# Altium schematic symbol library pale_sieve.SchLib: 30 symbols
Pins are listed as number, name and electrical type; pins without a type are passive.

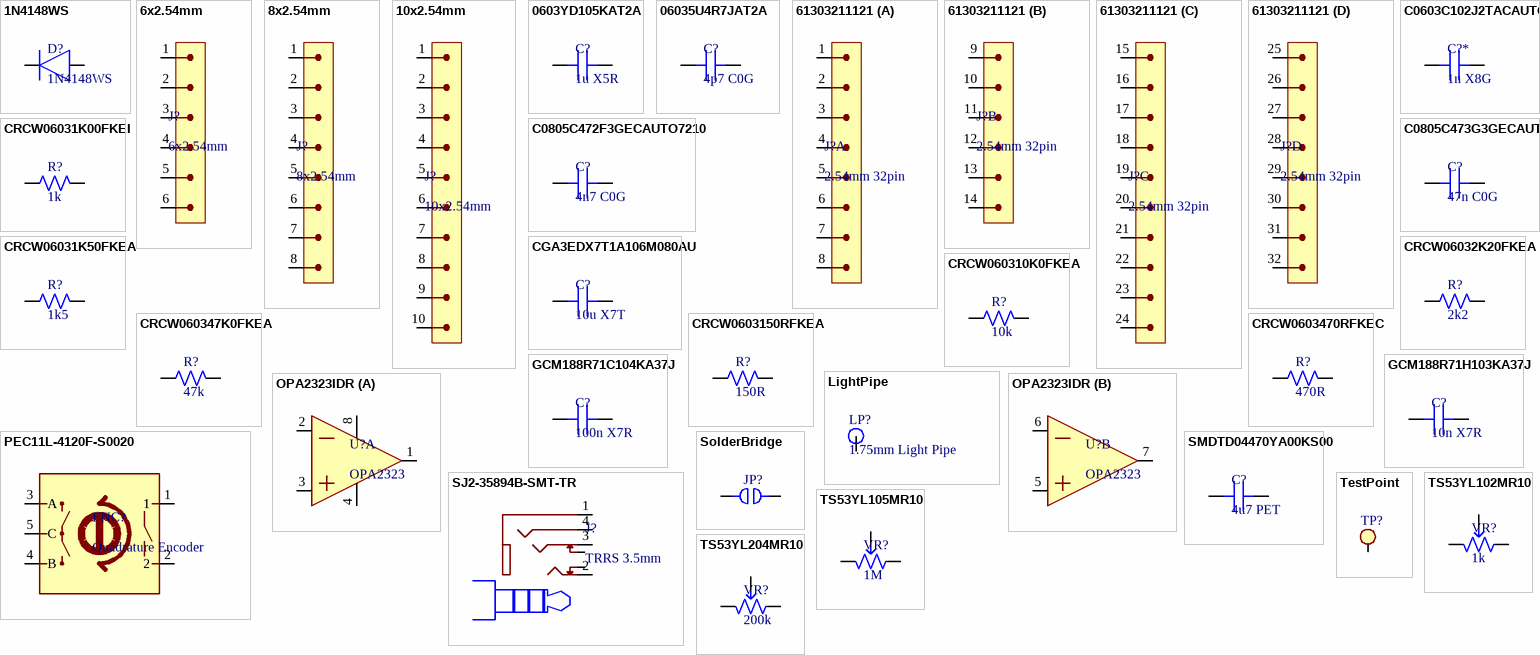
[diagram p0: symbols 1N4148WS to TS53YL204MR10]

## 1N4148WS
designator D?
Rectifier Diode, 1 Phase, 1 Element, 0.15A, 100V V(RRM), Silicon; Manufacturer: ON Semiconductor / Fairchild; Package Body Material: Plastic; Number of Elements: 1; Max Output current: 150mA; Reverse Recovery Time-Max: 0.004us; Forward Voltage: 1V; Qualification Status: Not Qualified; Supplier: Mouser; Supplier Part Number: 512-1N4148WS; Manufacturer Part Number: 1N4148WS; RoHS: Yes; Category: Rectifier Diodes; Stock: 1099354; Pricing: 1=0.11, 10=0.066, 50=0.066, 100=0.062, 1000=0.04, 10000=0.019 (USD); Pins: 2; Diode Element Material: SILICON; Package Shape: Rectangular; Max Operating Temperature: 150°C; Diode Type: RECTIFIER; JESD-30 Code: R-PDSO-F2; Package Style: SMALL OUTLINEMeter; Rep Pk Reverse Voltage-Max: 100V; Surface Mount: Yes; Terminal Form: Flat; Terminal Position: DUAL; Moisture Sensitivity Level: 1; Reach SVHC Compliant: Yes; RoHS Compliant: Yes; ComponentLink1URL: https://datasheet.ciiva.com:443/pdfs/VipMasterIC/IC/ONSM/ONSM-S-A0003392874/ONSM-S-A0003585195-1.pdf?src-supplier=IHS+Markit; ComponentLink1Description: https://datasheet.ciiva.com:443/pdfs/VipMasterIC/IC/ONSM/ONSM-S-A0003392874/ONSM-S-A0003585195-1.pdf?src-supplier=IHS+Markit
footprint SOD-323
pins: 1, 2

## 6x2.54mm
designator J?
footprint 1X6 2.54MM
pins: 1, 2, 3, 4, 5, 6

## 8x2.54mm
designator J?
footprint 1x8 2.54MM
pins: 1, 2, 3, 4, 5, 6, 7, 8

## 10x2.54mm
designator J?
footprint 1X10 2.54MM
pins: 1, 2, 3, 4, 5, 6, 7, 8, 9, 10

## 0603YD105KAT2A
designator C?, comment 1u X5R
Ceramic Capacitor, Multilayer, Ceramic, 16V, 10% +Tol, 10% -Tol, X5R, 15% TC, 1uF, Surface Mount, 0603; Manufacturer: Kyocera AVX; Manufacturer Part Number: 0603YD105KAT2A; Multilayer: Yes; Supplier: Mouser; Supplier Part Number: 581-0603YD105K; RoHS: Yes; Category: Ceramic Capacitors; Stock: 78861; Pricing: 1=0.1, 10=0.054, 50=0.054, 100=0.039, 1000=0.028, 10000=0.014 (USD); Mounting Technology: Surface Mount; Pins: 2; Dielectric Material: Ceramic; Package Shape: Rectangular; Case/Package: 0603; Terminal Finish: Nickel; Min Operating Temperature: -55°C; Max Operating Temperature: 85°C; JESD-609 Code: e3; Value: 1uF; Capacitor Type: Ceramic; Tolerance  (fill in as +-): 10%; Package Style: SMTMeter; Packaging: Tape and Reel; Tolerance (fill in as +-): 10%; Rated DC Voltage (URdc): 16V; Temperature Characteristics Code: X5R; Termination: Wraparound; Length: 1.6mm; Width: 0.81mm; Height: 0.9mm; Reach SVHC Compliant: Yes; RoHS Compliant: Yes; ComponentLink1URL: https://datasheet.ciiva.com:443/pdfs/VipMasterIC/IC/AVXC/AVXC-S-A0009640604/AVXC-S-A0009640604-1.pdf?src-supplier=IHS+Markit; ComponentLink1Description: https://datasheet.ciiva.com:443/pdfs/VipMasterIC/IC/AVXC/AVXC-S-A0009640604/AVXC-S-A0009640604-1.pdf?src-supplier=IHS+Markit; ComponentLink2URL: https://datasheet.ciiva.com/34303/2012654-34303835.pdf?src-supplier=Jameco; ComponentLink2Description: https://datasheet.ciiva.com/34303/2012654-34303835.pdf?src-supplier=Jameco; ComponentLink3URL: https://datasheet.ciiva.com/11788/0900766b80def1a5-11788563.pdf?src-supplier=Rs; ComponentLink3Description: https://datasheet.ciiva.com/11788/0900766b80def1a5-11788563.pdf?src-supplier=Rs; ComponentLink4URL: https://datasheet.ciiva.com/150/cx5r-150393.pdf?src-supplier=Digikey; ComponentLink4Description: https://datasheet.ciiva.com/150/cx5r-150393.pdf?src-supplier=Digikey; ComponentLink5URL: https://datasheet.ciiva.com/5412/cx5r-5412550.pdf?src-supplier=Mouser; ComponentLink5Description: https://datasheet.ciiva.com/5412/cx5r-5412550.pdf?src-supplier=Mouser; ComponentLink6URL: https://datasheet.ciiva.com/14586/70001028-14586715.pdf?src-supplier=Allied+Electronics; ComponentLink6Description: https://datasheet.ciiva.com/14586/70001028-14586715.pdf?src-supplier=Allied+Electronics; ComponentLink7URL: https://datasheet.ciiva.com/14590/70001028-14590632.pdf?src-supplier=Allied+Electronics; ComponentLink7Description: https://datasheet.ciiva.com/14590/70001028-14590632.pdf?src-supplier=Allied+Electronics; ComponentLink8URL: https://datasheet.ciiva.com/2987/cx5r-2987890.pdf?src-supplier=Avnet; ComponentLink8Description: https://datasheet.ciiva.com/2987/cx5r-2987890.pdf?src-supplier=Avnet; ComponentLink9URL: https://datasheet.ciiva.com/1458/84508-1458137.pdf?src-supplier=Element14; ComponentLink9Description: https://datasheet.ciiva.com/1458/84508-1458137.pdf?src-supplier=Element14; ComponentLink10URL: https://datasheet.ciiva.com/1458/84508-1458138.pdf?src-supplier=Element14; ComponentLink10Description: https://datasheet.ciiva.com/1458/84508-1458138.pdf?src-supplier=Element14; ComponentLink11URL: https://datasheet.ciiva.com/150/cx5r-150392.pdf?src-supplier=Digikey; ComponentLink11Description: https://datasheet.ciiva.com/150/cx5r-150392.pdf?src-supplier=Digikey; ComponentLink12URL: https://datasheet.ciiva.com/150/cx5r-150394.pdf?src-supplier=Digikey; ComponentLink12Description: https://datasheet.ciiva.com/150/cx5r-150394.pdf?src-supplier=Digikey
footprint C0603
pins: 1, 2

## 06035U4R7JAT2A
designator C?, comment 4p7 C0G
Multilayer Ceramic Capacitors MLCC - SMD/SMT 50V 4.7pF C0G 0603 5% Tol Ultra Low ESR; Manufacturer: Kyocera AVX; Manufacturer Part Number: 06035U4R7JAT2A; Supplier: Mouser; Supplier Part Number: 581-06035U4R7JAT2A; RoHS: Yes; Category: Ceramic Capacitors; Stock: 33815; Pricing: 1=0.39, 10=0.256, 50=0.256, 100=0.16, 1000=0.121, 10000=0.092 (USD); ComponentLink1URL: https://datasheet.ciiva.com/11551/useries-11551734.pdf?src-supplier=Avnet; ComponentLink1Description: https://datasheet.ciiva.com/11551/useries-11551734.pdf?src-supplier=Avnet; ComponentLink2URL: https://datasheet.ciiva.com/6265/useries-6265127.pdf?src-supplier=Digikey; ComponentLink2Description: https://datasheet.ciiva.com/6265/useries-6265127.pdf?src-supplier=Digikey
footprint C0603
pins: 1, 2

## 61303211121
designator J?, comment 2.54mm 32pin
Board Connector, 32 Contact(s), 1 Row(s), Male, Straight, 0.1 inch Pitch, Solder Terminal, Locking, Black Insulator, Plug; Manufacturer: Wurth Electronics; Manufacturer Part Number: 61303211121; Manufacturer Series: 613; Contact Pattern: RECTANGULAR; Contact Resistance: 20mR; Contact Style: SQ PIN-SKT; Dielectric Withstanding Voltage (AC): 500V; Insulation Resistance: 1GR; Number Of Connectors: 1; Rated Current (Signal): 3A; Number of Contacts: 32; Body Length: 3.2inch; Reference Standard: UL; Reliability: COMMERCIAL; Supplier: Mouser; Supplier Part Number: 710-61303211121; RoHS: Yes; Category: Headers and Wire Housings; Stock: 304; Pricing: 1=2.22, 10=2.17, 50=2.01, 100=1.84, 1000=1.67, 10000=1.67 (USD); Mounting Technology: Board; Contact Material: Copper Alloy; Contact Finish - Mating: GOLD; Contact Finish - Termination: Gold (Au) - with Nickel (Ni) barrier; Insulation Color: Black; Insulation Material: Polybutylene; Min Operating Temperature: -40°C; Max Operating Temperature: 125°C; Connector Type: BOARD CONNECTOR; JESD-609 Code: e4; Body/Shell Style: PLUG; Contact Gender: Male; Mounting Style: STRAIGHT; Number of Rows Loaded: 1; PCB Contact Pattern: RECTANGULAR; Termination: Solder; Body Breadth: 0.1inch; Body Depth: 0.1inch; Mating Contact Pitch: 0.1inch; Mounting Option 1: LOCKING; Terminal Length: 0.118inch; Terminal Pitch: 2.54mm; Reach SVHC Compliant: Yes; RoHS Compliant: Yes; ComponentLink1URL: https://datasheet.ciiva.com:443/pdfs/VipMasterIC/IC/MIDC/MIDCS07676/MIDCS07676-1.pdf?src-supplier=IHS+Markit; ComponentLink1Description: https://datasheet.ciiva.com:443/pdfs/VipMasterIC/IC/MIDC/MIDCS07676/MIDCS07676-1.pdf?src-supplier=IHS+Markit; ComponentLink2URL: https://datasheet.ciiva.com/25618/0900766b81113c2c-25618097.pdf?src-supplier=Rs; ComponentLink2Description: https://datasheet.ciiva.com/25618/0900766b81113c2c-25618097.pdf?src-supplier=Rs; ComponentLink3URL: https://datasheet.ciiva.com/7631/1442175-7631325.pdf?src-supplier=Element14; ComponentLink3Description: https://datasheet.ciiva.com/7631/1442175-7631325.pdf?src-supplier=Element14; ComponentLink4URL: https://datasheet.ciiva.com/738/6130xx11121-738551.pdf?src-supplier=Digikey; ComponentLink4Description: https://datasheet.ciiva.com/738/6130xx11121-738551.pdf?src-supplier=Digikey
part A pins: 1, 2, 3, 4, 5, 6, 7, 8
part B pins: 9, 10, 11, 12, 13, 14
part C pins: 15, 16, 17, 18, 19, 20, 21, 22, 23, 24
part D pins: 25, 26, 27, 28, 29, 30, 31, 32

## C0603C102J2TACAUTO
designator C?*, comment 1n X8G
Manufacturer: KEMET; Manufacturer Part Number: C0603C102J2TACAUTO; Supplier: Mouser; Supplier Part Number: 80-C0603C102J2TAUTO; RoHS: No; Stock: 6659; Pricing: 1=0.55, 10=0.357, 50=0.357, 100=0.252, 1000=0.197, 10000=0.149 (USD)
footprint C0603
pins: 1, 2

## C0805C472F3GECAUTO7210
designator C?, comment 4n7 C0G
Ceramic Capacitor, Multilayer, Ceramic, 25V, 1% +Tol, 1% -Tol, C0G, -/+30ppm/Cel TC, 0.0047uF, Surface Mount, 0805; Manufacturer: KEMET; Manufacturer Part Number: C0805C472F3GECAUTO7210; Supplier: Mouser; Supplier Part Number: 80-C0805C472F3GEAULR; RoHS: Yes; Category: Ceramic Capacitors; Stock: 12511; Pricing: 1=1.12, 10=0.725, 50=0.725, 100=0.52, 1000=0.414, 10000=0.322 (USD); Pins: 2; Dielectric Material: Ceramic; Capacitor Type: Ceramic; Reach SVHC Compliant: Yes; RoHS Compliant: Yes; ComponentLink1URL: https://datasheet.ciiva.com:443/pdfs/VipMasterIC/IC/KEME/KEME-S-A0008958440/KEME-S-A0008958440-1.pdf?src-supplier=IHS+Markit; ComponentLink1Description: https://datasheet.ciiva.com:443/pdfs/VipMasterIC/IC/KEME/KEME-S-A0008958440/KEME-S-A0008958440-1.pdf?src-supplier=IHS+Markit; ComponentLink2URL: https://api.kemet.com/component-edge/download/datasheet/C0805C472F3GECAUTO7210.pdf?src-supplier=Digikey; ComponentLink2Description: https://api.kemet.com/component-edge/download/datasheet/C0805C472F3GECAUTO7210.pdf?src-supplier=Digikey
footprint C0805
pins: 1, 2

## C0805C473G3GECAUTO
designator C?, comment 47n C0G
Ceramic Capacitor, Multilayer, Ceramic, 25V, 2% +Tol, 2% -Tol, C0G, -/+30ppm/Cel TC, 0.047uF, Surface Mount, 0805; Manufacturer: KEMET; Manufacturer Part Number: C0805C473G3GECAUTO; Supplier: Mouser; Supplier Part Number: 80-C0805C473G3GECAUT; RoHS: Yes; Category: Ceramic Capacitors; Stock: 3931; Pricing: 1=0.86, 10=0.61, 50=0.61, 100=0.482, 1000=0.399, 10000=0.329 (USD); Pins: 2; Dielectric Material: Ceramic; Capacitor Type: Ceramic; Reach SVHC Compliant: Yes; RoHS Compliant: Yes; ComponentLink1URL: https://datasheet.ciiva.com:443/pdfs/VipMasterIC/IC/KEME/KEME-S-A0008958440/KEME-S-A0008958440-1.pdf?src-supplier=IHS+Markit; ComponentLink1Description: https://datasheet.ciiva.com:443/pdfs/VipMasterIC/IC/KEME/KEME-S-A0008958440/KEME-S-A0008958440-1.pdf?src-supplier=IHS+Markit; ComponentLink2URL: https://api.kemet.com/component-edge/download/datasheet/C0805C473G3GECAUTO.pdf?src-supplier=Digikey; ComponentLink2Description: https://api.kemet.com/component-edge/download/datasheet/C0805C473G3GECAUTO.pdf?src-supplier=Digikey
footprint C0805
pins: 1, 2

## CGA3EDX7T1A106M080AU
designator C?, comment 10u X7T
Manufacturer: TDK; Manufacturer Part Number: CGA3EDX7T1A106M080AU; Supplier: Mouser; Supplier Part Number: 810-CGA3EDX7T1A106M0; RoHS: No; Category: Ceramic Capacitors; Stock: 910; Pricing: 1=0.49, 10=0.321, 50=0.321, 100=0.193, 1000=0.149, 10000=0.112 (USD)
footprint C0603
pins: 1, 2

## CRCW06031K00FKEI
designator R?, comment 1k
Fixed Resistor, Metal Glaze/thick Film, 0.1W, 1000ohm, 75V, 1% +/-Tol, 100ppm/Cel, Surface Mount, 0603; Manufacturer: Vishay; Manufacturer Part Number: CRCW06031K00FKEI; Power: 100mW; Rated Temperature: 70°C; Value: 1kR; Temperature Coefficient (ppm/Cel): 100; Package Height: 0.45mm; Package Length: 1.55mm; Package Width: 0.85mm; Reference Standard: AEC-Q200; Supplier: Mouser; Supplier Part Number: 71-CRCW06031K00FKEI; RoHS: Yes; Category: Chip SMD Resistors; Stock: 93678; Pricing: 1=0.12, 10=0.029, 50=0.029, 100=0.016, 1000=0.016, 10000=0.013 (USD); Mounting Technology: Surface Mount; Pins: 2; Package Shape: Rectangular; Case/Package: 0603; Terminal Finish: Nickel; Min Operating Temperature: -55°C; Max Operating Temperature: 155°C; Tolerance: 1%; JESD-609 Code: e3; Resistor Type: FIXED RESISTOR; Construction: Chip; Packaging: Tape and Reel; Technology: METAL GLAZE/THICK FILM; Termination: Wraparound; Working Voltage: 75V; Reach SVHC Compliant: Yes; RoHS Compliant: Yes; ComponentLink1URL: https://datasheet.ciiva.com:443/pdfs/VipMasterIC/IC/VISH/VISH-S-A0007266705/VISH-S-A0007266705-1.pdf?src-supplier=IHS+Markit; ComponentLink1Description: https://datasheet.ciiva.com:443/pdfs/VipMasterIC/IC/VISH/VISH-S-A0007266705/VISH-S-A0007266705-1.pdf?src-supplier=IHS+Markit
footprint R0603
pins: 1, 2

## CRCW06031K50FKEA
designator R?, comment 1k5
Fixed Resistor, Metal Glaze/thick Film, 0.1W, 1500ohm, 75V, 1% +/-Tol, 100ppm/Cel, Surface Mount, 0603; Manufacturer: Vishay; Manufacturer Part Number: CRCW06031K50FKEA; Power: 100mW; Value: 1.5kR; Temperature Coefficient (ppm/Cel): 100; Rated Temperature: 70°C; Package Height: 0.45mm; Package Length: 1.55mm; Package Width: 0.85mm; Reference Standard: AEC-Q200; Supplier: Mouser; Supplier Part Number: 71-CRCW0603-1.5K-E3; RoHS: Yes; Category: Chip SMD Resistors; Stock: 106634; Pricing: 1=0.1, 10=0.031, 50=0.031, 100=0.016, 1000=0.008, 10000=0.004 (USD); Mounting Technology: Surface Mount; Pins: 2; Case/Package: 0603; Terminal Finish: Nickel; Package Shape: Rectangular; Min Operating Temperature: -55°C; Max Operating Temperature: 155°C; Tolerance: 1%; JESD-609 Code: e3; Resistor Type: FIXED RESISTOR; Construction: Chip; Packaging: Tape and Reel; Technology: METAL GLAZE/THICK FILM; Working Voltage: 75V; Termination: Wraparound; Reach SVHC Compliant: Yes; RoHS Compliant: Yes; ComponentLink1URL: https://datasheet.ciiva.com:443/pdfs/VipMasterIC/IC/VISH/VISH-S-A0007266705/VISH-S-A0007266705-1.pdf?src-supplier=IHS+Markit; ComponentLink1Description: https://datasheet.ciiva.com:443/pdfs/VipMasterIC/IC/VISH/VISH-S-A0007266705/VISH-S-A0007266705-1.pdf?src-supplier=IHS+Markit; ComponentLink2URL: https://datasheet.ciiva.com/11818/0900766b80d98afc-11818140.pdf?src-supplier=Rs; ComponentLink2Description: https://datasheet.ciiva.com/11818/0900766b80d98afc-11818140.pdf?src-supplier=Rs; ComponentLink3URL: https://datasheet.ciiva.com/7777/1720486-7777550.pdf?src-supplier=Element14; ComponentLink3Description: https://datasheet.ciiva.com/7777/1720486-7777550.pdf?src-supplier=Element14; ComponentLink4URL: https://datasheet.ciiva.com/5544/dcrcwe3-109170-5544539.pdf?src-supplier=Mouser; ComponentLink4Description: https://datasheet.ciiva.com/5544/dcrcwe3-109170-5544539.pdf?src-supplier=Mouser; ComponentLink5URL: https://datasheet.ciiva.com/16199/dcrcwe3-16199429.pdf?src-supplier=Future+Electronics; ComponentLink5Description: https://datasheet.ciiva.com/16199/dcrcwe3-16199429.pdf?src-supplier=Future+Electronics; ComponentLink6URL: https://datasheet.ciiva.com/2465/dcrcwe3-2465520.pdf?src-supplier=Digikey; ComponentLink6Description: https://datasheet.ciiva.com/2465/dcrcwe3-2465520.pdf?src-supplier=Digikey; ComponentLink7URL: https://datasheet.ciiva.com/2465/dcrcwe3-2465521.pdf?src-supplier=Digikey; ComponentLink7Description: https://datasheet.ciiva.com/2465/dcrcwe3-2465521.pdf?src-supplier=Digikey; ComponentLink8URL: https://datasheet.ciiva.com/2465/dcrcwe3-2465519.pdf?src-supplier=Digikey; ComponentLink8Description: https://datasheet.ciiva.com/2465/dcrcwe3-2465519.pdf?src-supplier=Digikey; ComponentLink9URL: https://datasheet.ciiva.com/16724/70201119-16724086.pdf?src-supplier=Allied+Electronics; ComponentLink9Description: https://datasheet.ciiva.com/16724/70201119-16724086.pdf?src-supplier=Allied+Electronics; ComponentLink10URL: https://datasheet.ciiva.com/26316/fld-crcw-e3-data-en-26316555.pdf?src-supplier=Distrelec; ComponentLink10Description: https://datasheet.ciiva.com/26316/fld-crcw-e3-data-en-26316555.pdf?src-supplier=Distrelec
footprint R0603
pins: 1, 2

## CRCW06032K20FKEA
designator R?, comment 2k2
Fixed Resistor, Metal Glaze/thick Film, 0.1W, 2200ohm, 75V, 1% +/-Tol, 100ppm/Cel, Surface Mount, 0603; Manufacturer: Vishay; Manufacturer Part Number: CRCW06032K20FKEA; Power: 100mW; Value: 2.2kR; Temperature Coefficient (ppm/Cel): 100; Rated Temperature: 70°C; Package Height: 0.45mm; Package Length: 1.55mm; Package Width: 0.85mm; Reference Standard: AEC-Q200; Supplier: Mouser; Supplier Part Number: 71-CRCW0603-2.2K-E3; RoHS: Yes; Category: Chip SMD Resistors; Stock: 270161; Pricing: 1=0.1, 10=0.028, 50=0.028, 100=0.015, 1000=0.008, 10000=0.004 (USD); Mounting Technology: Surface Mount; Pins: 2; Case/Package: 0603; Terminal Finish: Nickel; Package Shape: Rectangular; Min Operating Temperature: -55°C; Max Operating Temperature: 155°C; Tolerance: 1%; JESD-609 Code: e3; Resistor Type: FIXED RESISTOR; Construction: Chip; Packaging: Tape and Reel; Technology: METAL GLAZE/THICK FILM; Working Voltage: 75V; Termination: Wraparound; Reach SVHC Compliant: Yes; RoHS Compliant: Yes; ComponentLink1URL: https://datasheet.ciiva.com:443/pdfs/VipMasterIC/IC/VISH/VISH-S-A0007266705/VISH-S-A0007266705-1.pdf?src-supplier=IHS+Markit; ComponentLink1Description: https://datasheet.ciiva.com:443/pdfs/VipMasterIC/IC/VISH/VISH-S-A0007266705/VISH-S-A0007266705-1.pdf?src-supplier=IHS+Markit
footprint R0603
pins: 1, 2

## CRCW060310K0FKEA
designator R?, comment 10k
Fixed Resistor, Metal Glaze/thick Film, 0.1W, 10000ohm, 75V, 1% +/-Tol, 100ppm/Cel, Surface Mount, 0603; Manufacturer: Vishay; Manufacturer Part Number: CRCW060310K0FKEA; Power: 100mW; Value: 10kR; Temperature Coefficient (ppm/Cel): 100; Rated Temperature: 70°C; Package Height: 0.45mm; Package Length: 1.55mm; Package Width: 0.85mm; Reference Standard: AEC-Q200; Supplier: Mouser; Supplier Part Number: 71-CRCW0603-10K-E3; RoHS: Yes; Category: Chip SMD Resistors; Stock: 2181326; Pricing: 1=0.1, 10=0.031, 50=0.031, 100=0.015, 1000=0.008, 10000=0.004 (USD); Mounting Technology: Surface Mount; Pins: 2; Case/Package: 0603; Terminal Finish: Nickel; Package Shape: Rectangular; Min Operating Temperature: -55°C; Max Operating Temperature: 155°C; Tolerance: 1%; JESD-609 Code: e3; Resistor Type: FIXED RESISTOR; Construction: Chip; Packaging: Tape and Reel; Technology: METAL GLAZE/THICK FILM; Working Voltage: 75V; Termination: Wraparound; Reach SVHC Compliant: Yes; RoHS Compliant: Yes; ComponentLink1URL: https://datasheet.ciiva.com:443/pdfs/VipMasterIC/IC/VISH/VISH-S-A0007266705/VISH-S-A0007266705-1.pdf?src-supplier=IHS+Markit; ComponentLink1Description: https://datasheet.ciiva.com:443/pdfs/VipMasterIC/IC/VISH/VISH-S-A0007266705/VISH-S-A0007266705-1.pdf?src-supplier=IHS+Markit; ComponentLink2URL: https://datasheet.ciiva.com/11809/0900766b80d98afc-11809037.pdf?src-supplier=Rs; ComponentLink2Description: https://datasheet.ciiva.com/11809/0900766b80d98afc-11809037.pdf?src-supplier=Rs; ComponentLink3URL: https://datasheet.ciiva.com/46385/1697337-46385498.pdf?src-supplier=Element14; ComponentLink3Description: https://datasheet.ciiva.com/46385/1697337-46385498.pdf?src-supplier=Element14; ComponentLink4URL: https://datasheet.ciiva.com/2465/dcrcwe3-2465514.pdf?src-supplier=Digikey; ComponentLink4Description: https://datasheet.ciiva.com/2465/dcrcwe3-2465514.pdf?src-supplier=Digikey; ComponentLink5URL: https://datasheet.ciiva.com/2465/dcrcwe3-2465515.pdf?src-supplier=Digikey; ComponentLink5Description: https://datasheet.ciiva.com/2465/dcrcwe3-2465515.pdf?src-supplier=Digikey; ComponentLink6URL: https://datasheet.ciiva.com/2465/dcrcwe3-2465513.pdf?src-supplier=Digikey; ComponentLink6Description: https://datasheet.ciiva.com/2465/dcrcwe3-2465513.pdf?src-supplier=Digikey; ComponentLink7URL: https://datasheet.ciiva.com/5543/dcrcwe3-109170-5543001.pdf?src-supplier=Mouser; ComponentLink7Description: https://datasheet.ciiva.com/5543/dcrcwe3-109170-5543001.pdf?src-supplier=Mouser; ComponentLink8URL: https://datasheet.ciiva.com/3256/dcrcwe3-3256940.pdf?src-supplier=Avnet; ComponentLink8Description: https://datasheet.ciiva.com/3256/dcrcwe3-3256940.pdf?src-supplier=Avnet; ComponentLink9URL: https://datasheet.ciiva.com/16209/dcrcwe3-16209164.pdf?src-supplier=Future+Electronics; ComponentLink9Description: https://datasheet.ciiva.com/16209/dcrcwe3-16209164.pdf?src-supplier=Future+Electronics; ComponentLink10URL: https://datasheet.ciiva.com/3256/dcrcwe3-3256939.pdf?src-supplier=Avnet; ComponentLink10Description: https://datasheet.ciiva.com/3256/dcrcwe3-3256939.pdf?src-supplier=Avnet; ComponentLink11URL: https://datasheet.ciiva.com/26314/fld-crcw-e3-data-en-26314749.pdf?src-supplier=Distrelec; ComponentLink11Description: https://datasheet.ciiva.com/26314/fld-crcw-e3-data-en-26314749.pdf?src-supplier=Distrelec; ComponentLink12URL: https://datasheet.ciiva.com/16719/70201119-16719704.pdf?src-supplier=Allied+Electronics; ComponentLink12Description: https://datasheet.ciiva.com/16719/70201119-16719704.pdf?src-supplier=Allied+Electronics; ComponentLink13URL: https://datasheet.ciiva.com/16754/70201119-16754710.pdf?src-supplier=Allied+Electronics; ComponentLink13Description: https://datasheet.ciiva.com/16754/70201119-16754710.pdf?src-supplier=Allied+Electronics
footprint R0603
pins: 1, 2

## CRCW060347K0FKEA
designator R?, comment 47k
Fixed Resistor, Metal Glaze/thick Film, 0.1W, 47000ohm, 75V, 1% +/-Tol, 100ppm/Cel, Surface Mount, 0603; Manufacturer: Vishay; Manufacturer Part Number: CRCW060347K0FKEA; Power: 100mW; Value: 47kR; Temperature Coefficient (ppm/Cel): 100; Rated Temperature: 70°C; Package Height: 0.45mm; Package Length: 1.55mm; Package Width: 0.85mm; Reference Standard: AEC-Q200; Supplier: Mouser; Supplier Part Number: 71-CRCW0603-47K-E3; RoHS: Yes; Category: Chip SMD Resistors; Stock: 182851; Pricing: 1=0.1, 10=0.028, 50=0.028, 100=0.015, 1000=0.008, 10000=0.004 (USD); Mounting Technology: Surface Mount; Pins: 2; Case/Package: 0603; Terminal Finish: Nickel; Package Shape: Rectangular; Min Operating Temperature: -55°C; Max Operating Temperature: 155°C; Tolerance: 1%; JESD-609 Code: e3; Resistor Type: FIXED RESISTOR; Construction: Chip; Packaging: Tape and Reel; Technology: METAL GLAZE/THICK FILM; Working Voltage: 75V; Termination: Wraparound; Reach SVHC Compliant: Yes; RoHS Compliant: Yes; ComponentLink1URL: https://datasheet.ciiva.com:443/pdfs/VipMasterIC/IC/VISH/VISH-S-A0007266705/VISH-S-A0007266705-1.pdf?src-supplier=IHS+Markit; ComponentLink1Description: https://datasheet.ciiva.com:443/pdfs/VipMasterIC/IC/VISH/VISH-S-A0007266705/VISH-S-A0007266705-1.pdf?src-supplier=IHS+Markit; ComponentLink2URL: https://datasheet.ciiva.com/11808/0900766b80d98afc-11808694.pdf?src-supplier=Rs; ComponentLink2Description: https://datasheet.ciiva.com/11808/0900766b80d98afc-11808694.pdf?src-supplier=Rs
footprint R0603
pins: 1, 2

## CRCW0603150RFKEA
designator R?, comment 150R
Fixed Resistor, Metal Glaze/thick Film, 0.1W, 150ohm, 75V, 1% +/-Tol, 100ppm/Cel, Surface Mount, 0603; Manufacturer: Vishay; Manufacturer Part Number: CRCW0603150RFKEA; Power: 100mW; Temperature Coefficient (ppm/Cel): 100; Rated Temperature: 70°C; Package Height: 0.45mm; Package Length: 1.55mm; Package Width: 0.85mm; Reference Standard: AEC-Q200; Supplier: Mouser; Supplier Part Number: 71-CRCW0603-150-E3; RoHS: Yes; Category: Chip SMD Resistors; Stock: 275413; Pricing: 1=0.1, 10=0.02, 50=0.02, 100=0.014, 1000=0.008, 10000=0.004 (USD); Mounting Technology: Surface Mount; Pins: 2; Case/Package: 0603; Terminal Finish: Nickel; Package Shape: Rectangular; Min Operating Temperature: -55°C; Max Operating Temperature: 155°C; Tolerance: 1%; JESD-609 Code: e3; Resistor Type: FIXED RESISTOR; Construction: Chip; Packaging: Tape and Reel; Value: 150R; Technology: METAL GLAZE/THICK FILM; Working Voltage: 75V; Termination: Wraparound; Reach SVHC Compliant: Yes; RoHS Compliant: Yes; ComponentLink1URL: https://datasheet.ciiva.com:443/pdfs/VipMasterIC/IC/VISH/VISH-S-A0007266705/VISH-S-A0007266705-1.pdf?src-supplier=IHS+Markit; ComponentLink1Description: https://datasheet.ciiva.com:443/pdfs/VipMasterIC/IC/VISH/VISH-S-A0007266705/VISH-S-A0007266705-1.pdf?src-supplier=IHS+Markit; ComponentLink2URL: https://datasheet.ciiva.com/11808/0900766b80d98afc-11808649.pdf?src-supplier=Rs; ComponentLink2Description: https://datasheet.ciiva.com/11808/0900766b80d98afc-11808649.pdf?src-supplier=Rs; ComponentLink3URL: https://datasheet.ciiva.com/26316/fld-crcw-e3-data-en-26316570.pdf?src-supplier=Distrelec; ComponentLink3Description: https://datasheet.ciiva.com/26316/fld-crcw-e3-data-en-26316570.pdf?src-supplier=Distrelec; ComponentLink4URL: https://datasheet.ciiva.com/2465/dcrcwe3-2465574.pdf?src-supplier=Digikey; ComponentLink4Description: https://datasheet.ciiva.com/2465/dcrcwe3-2465574.pdf?src-supplier=Digikey; ComponentLink5URL: https://datasheet.ciiva.com/2465/dcrcwe3-2465575.pdf?src-supplier=Digikey; ComponentLink5Description: https://datasheet.ciiva.com/2465/dcrcwe3-2465575.pdf?src-supplier=Digikey; ComponentLink6URL: https://datasheet.ciiva.com/2465/dcrcwe3-2465573.pdf?src-supplier=Digikey; ComponentLink6Description: https://datasheet.ciiva.com/2465/dcrcwe3-2465573.pdf?src-supplier=Digikey; ComponentLink7URL: https://datasheet.ciiva.com/7777/1697337-7777547.pdf?src-supplier=Element14; ComponentLink7Description: https://datasheet.ciiva.com/7777/1697337-7777547.pdf?src-supplier=Element14; ComponentLink8URL: https://datasheet.ciiva.com/16755/70201119-16755595.pdf?src-supplier=Allied+Electronics; ComponentLink8Description: https://datasheet.ciiva.com/16755/70201119-16755595.pdf?src-supplier=Allied+Electronics; ComponentLink9URL: https://datasheet.ciiva.com/16761/70201119-16761055.pdf?src-supplier=Allied+Electronics; ComponentLink9Description: https://datasheet.ciiva.com/16761/70201119-16761055.pdf?src-supplier=Allied+Electronics; ComponentLink10URL: https://datasheet.ciiva.com/5541/dcrcwe3-109170-5541864.pdf?src-supplier=Mouser; ComponentLink10Description: https://datasheet.ciiva.com/5541/dcrcwe3-109170-5541864.pdf?src-supplier=Mouser
footprint R0603
pins: 1, 2

## CRCW0603470RFKEC
designator R?, comment 470R
Fixed Resistor, Metal Glaze/thick Film, 0.1W, 470ohm, 75V, 1% +/-Tol, 100ppm/Cel, Surface Mount, 0603; Manufacturer: Vishay; Manufacturer Part Number: CRCW0603470RFKEC; Power: 100mW; Rated Temperature: 70°C; Temperature Coefficient (ppm/Cel): 100; Package Height: 0.45mm; Package Length: 1.55mm; Package Width: 0.85mm; Reference Standard: AEC-Q200; Supplier: Mouser; Supplier Part Number: 71-CRCW0603470RFKEC; RoHS: Yes; Category: Chip SMD Resistors; Stock: 49691; Pricing: 1=0.1, 10=0.017, 50=0.017, 100=0.017, 1000=0.017, 10000=0.017 (USD); Mounting Technology: Surface Mount; Pins: 2; Package Shape: Rectangular; Case/Package: 0603; Terminal Finish: Nickel; Min Operating Temperature: -55°C; Max Operating Temperature: 155°C; Tolerance: 1%; JESD-609 Code: e3; Resistor Type: FIXED RESISTOR; Construction: Chip; Packaging: Tape and Reel; Value: 470R; Technology: METAL GLAZE/THICK FILM; Termination: Wraparound; Working Voltage: 75V; Reach SVHC Compliant: Yes; RoHS Compliant: Yes; ComponentLink1URL: https://datasheet.ciiva.com:443/pdfs/VipMasterIC/IC/VISH/VISH-S-A0007266705/VISH-S-A0007266705-1.pdf?src-supplier=IHS+Markit; ComponentLink1Description: https://datasheet.ciiva.com:443/pdfs/VipMasterIC/IC/VISH/VISH-S-A0007266705/VISH-S-A0007266705-1.pdf?src-supplier=IHS+Markit; ComponentLink2URL: http://www.vishay.com/docs/20035/dcrcwe3.pdf?src-supplier=Digikey; ComponentLink2Description: http://www.vishay.com/docs/20035/dcrcwe3.pdf?src-supplier=Digikey; ComponentLink3URL: https://datasheet.octopart.com/CRCW0603470RFKEC-Vishay-datasheet-62316122.pdf?src-supplier=Future+Electronics; ComponentLink3Description: https://datasheet.octopart.com/CRCW0603470RFKEC-Vishay-datasheet-62316122.pdf?src-supplier=Future+Electronics
footprint R0603
pins: 1, 2

## GCM188R71C104KA37J
designator C?, comment 100n X7R
Ceramic Capacitor, Multilayer, Ceramic, 16V, 10% +Tol, 10% -Tol, X7R, 15% TC, 0.1uF, Surface Mount, 0603; Manufacturer: Murata; Manufacturer Part Number: GCM188R71C104KA37J; Value: 100nF; Multilayer: Yes; Reference Standard: AEC-Q200; Supplier: Mouser; Supplier Part Number: 81-GCM188R71C104KA7J; RoHS: Yes; Category: Ceramic Capacitors; Stock: 1076744; Pricing: 1=0.18, 10=0.106, 50=0.106, 100=0.066, 1000=0.046, 10000=0.031 (USD); Mounting Technology: Surface Mount; Pins: 2; Dielectric Material: Ceramic; Package Shape: Rectangular; Case/Package: 0603; Terminal Finish: Nickel; Min Operating Temperature: -55°C; Max Operating Temperature: 125°C; JESD-609 Code: e3; Capacitor Type: Ceramic; Tolerance  (fill in as +-): 10%; Package Style: SMTMeter; Packaging: Tape and Reel; Tolerance (fill in as +-): 10%; Rated DC Voltage (URdc): 16V; Temperature Characteristics Code: X7R; Termination: Wraparound; Length: 1.6mm; Width: 0.8mm; Height: 0.9mm; Reach SVHC Compliant: Yes; RoHS Compliant: Yes; ComponentLink1URL: https://datasheet.ciiva.com:443/pdfs/VipMasterIC/IC/MURE/MURE-S-A0004370842/MURE-S-A0004371613-1.pdf?src-supplier=IHS+Markit; ComponentLink1Description: https://datasheet.ciiva.com:443/pdfs/VipMasterIC/IC/MURE/MURE-S-A0004370842/MURE-S-A0004371613-1.pdf?src-supplier=IHS+Markit; ComponentLink2URL: https://datasheet.ciiva.com/18183/getdatasheetpartid-140967-18183600.pdf?src-supplier=Verical; ComponentLink2Description: https://datasheet.ciiva.com/18183/getdatasheetpartid-140967-18183600.pdf?src-supplier=Verical; ComponentLink3URL: https://datasheet.ciiva.com/29540/product-29540842.pdf?src-supplier=Digikey; ComponentLink3Description: https://datasheet.ciiva.com/29540/product-29540842.pdf?src-supplier=Digikey; ComponentLink4URL: https://datasheet.ciiva.com/29540/product-29540843.pdf?src-supplier=Digikey; ComponentLink4Description: https://datasheet.ciiva.com/29540/product-29540843.pdf?src-supplier=Digikey; ComponentLink5URL: https://datasheet.ciiva.com/29540/product-29540844.pdf?src-supplier=Digikey; ComponentLink5Description: https://datasheet.ciiva.com/29540/product-29540844.pdf?src-supplier=Digikey
footprint C0603
pins: 1, 2

## GCM188R71H103KA37J
designator C?, comment 10n X7R
Ceramic Capacitor, Multilayer, Ceramic, 50V, 10% +Tol, 10% -Tol, X7R, 15% TC, 0.01uF, Surface Mount, 0603; Manufacturer: Murata; Manufacturer Part Number: GCM188R71H103KA37J; Value: 10nF; Multilayer: Yes; Reference Standard: AEC-Q200; Supplier: Mouser; Supplier Part Number: 81-GCM188R71H103KA7J; RoHS: Yes; Category: Ceramic Capacitors; Stock: 4285681; Pricing: 1=0.12, 10=0.07, 50=0.07, 100=0.043, 1000=0.03, 10000=0.019 (USD); Mounting Technology: Surface Mount; Pins: 2; Dielectric Material: Ceramic; Package Shape: Rectangular; Case/Package: 0603; Terminal Finish: Nickel; Min Operating Temperature: -55°C; Max Operating Temperature: 125°C; JESD-609 Code: e3; Capacitor Type: Ceramic; Tolerance  (fill in as +-): 10%; Package Style: SMTMeter; Packaging: Tape and Reel; Tolerance (fill in as +-): 10%; Rated DC Voltage (URdc): 50V; Temperature Characteristics Code: X7R; Termination: Wraparound; Length: 1.6mm; Width: 0.8mm; Height: 0.9mm; Reach SVHC Compliant: Yes; RoHS Compliant: Yes; ComponentLink1URL: https://datasheet.ciiva.com:443/pdfs/VipMasterIC/IC/MURE/MURE-S-A0004362469/MURE-S-A0004362747-1.pdf?src-supplier=IHS+Markit; ComponentLink1Description: https://datasheet.ciiva.com:443/pdfs/VipMasterIC/IC/MURE/MURE-S-A0004362469/MURE-S-A0004362747-1.pdf?src-supplier=IHS+Markit; ComponentLink2URL: http://components.arrow.com/part/dataview/46582708S9924635N2606?src-supplier=Arrow+Electronics; ComponentLink2Description: http://components.arrow.com/part/dataview/46582708S9924635N2606?src-supplier=Arrow+Electronics; ComponentLink3URL: http://www.mouser.com/ds/2/281/c03e-806517.pdf?src-supplier=Mouser; ComponentLink3Description: http://www.mouser.com/ds/2/281/c03e-806517.pdf?src-supplier=Mouser; ComponentLink4URL: https://psearch.en.murata.com/capacitor/product/GCM188R71H103KA37%23.pdf?src-supplier=Digikey; ComponentLink4Description: https://psearch.en.murata.com/capacitor/product/GCM188R71H103KA37%23.pdf?src-supplier=Digikey; ComponentLink5URL: https://datasheet.octopart.com/GCM188R71H103KA37J-Murata-datasheet-41571772.pdf?src-supplier=Future+Electronics; ComponentLink5Description: https://datasheet.octopart.com/GCM188R71H103KA37J-Murata-datasheet-41571772.pdf?src-supplier=Future+Electronics
footprint C0603
pins: 1, 2

## LightPipe
designator LP?, comment 1.75mm Light Pipe
footprint PTH 1.75MM
pins: 1

## OPA2323IDR
designator U?, comment OPA2323
Manufacturer: Texas Instruments; Manufacturer Part Number: OPA2323IDR; Supplier: Mouser; Supplier Part Number: 595-OPA2323IDR; RoHS: No; Stock: 5343; Pricing: 1=1.63, 10=1.1, 50=0.974, 100=0.778, 1000=0.411, 10000=0.393 (USD)
footprint SOIC-8 D
part A pins: 1, 2, 3, 4, 8
part B pins: 5, 6, 7

## PEC11L-4120F-S0020
designator ENC?, comment Quadrature Encoder
Rotary Position Encoder; Manufacturer: Bourns; Manufacturer Part Number: PEC11L-4120F-S0020; Supplier: Mouser; Supplier Part Number: 652-PEC11L4120FS0020; RoHS: Yes; Category: Encoders; Stock: 1506; Pricing: 1=2.32, 10=1.81, 50=1.81, 100=1.72, 1000=1.49, 10000=1.3 (USD); Optoelectronic Device Type: ROTARY POSITION ENCODER; Reach SVHC Compliant: Yes; RoHS Compliant: Yes; ComponentLink1URL: https://datasheet.ciiva.com:443/pdfs/VipMasterIC/IC/BOUR/BOUR-S-A0009552335/BOUR-S-A0009552335-1.pdf?src-supplier=IHS+Markit; ComponentLink1Description: https://datasheet.ciiva.com:443/pdfs/VipMasterIC/IC/BOUR/BOUR-S-A0009552335/BOUR-S-A0009552335-1.pdf?src-supplier=IHS+Markit; ComponentLink2URL: https://datasheet.ciiva.com/29891/pec11l-29891433.pdf?src-supplier=Avnet; ComponentLink2Description: https://datasheet.ciiva.com/29891/pec11l-29891433.pdf?src-supplier=Avnet; ComponentLink3URL: https://datasheet.ciiva.com/24006/pec11l-74340-24006965.pdf?src-supplier=Mouser; ComponentLink3Description: https://datasheet.ciiva.com/24006/pec11l-74340-24006965.pdf?src-supplier=Mouser; ComponentLink4URL: https://datasheet.ciiva.com/45927/1272pec11l-45927899.pdf?src-supplier=Onlinecomponents.com; ComponentLink4Description: https://datasheet.ciiva.com/45927/1272pec11l-45927899.pdf?src-supplier=Onlinecomponents.com
footprint PEC11L
pins: 1, 2, 3 A, 4 B, 5 C

## SJ2-35894B-SMT-TR
designator J?, comment TRRS 3.5mm
3.5 mm, Stereo, Right Angle, Surface Mount (SMT), Audio Jack Connector; Manufacturer: Same Sky; Manufacturer Part Number: SJ2-35894B-SMT-TR; Supplier: Mouser; Supplier Part Number: 490-SJ2-35894BSMT-TR; RoHS: No; Stock: 8459; Pricing: 1=1.3, 10=0.92, 50=0.92, 100=0.798, 1000=0.658, 10000=0.631 (USD); ComponentLink1URL: https://www.cuidevices.com/product/resource/digikeypdf/sj2-3589x-smt.pdf?src-supplier=Digikey; ComponentLink1Description: https://www.cuidevices.com/product/resource/digikeypdf/sj2-3589x-smt.pdf?src-supplier=Digikey
footprint SJ2-35894B-SMT
pins: 1, 2, 3, 4, 10, 11

## SMDTD04470YA00KS00
designator C?, comment 4u7 PET
Film Capacitor, Polyethylene Terephthalate, 100V, 10% +Tol, 10% -Tol, 4.7uF, Surface Mount, 6054; Manufacturer: WIMA; Manufacturer Part Number: SMDTD04470YA00KS00; Rated AC Voltage (URac): 63V; Supplier: Mouser; Supplier Part Number: 505-SMDTD04470YA00KS; RoHS: Yes; Category: Film Capacitors; Stock: 606; Pricing: 1=2.93, 10=2.13, 50=1.96, 100=1.64, 1000=1.31, 10000=1.18 (USD); Pins: 2; Dielectric Material: Polyethylene; Case/Package: 6054; Terminal Finish: Tin; Min Operating Temperature: -55°C; Max Operating Temperature: 100°C; JESD-609 Code: e3; Value: 4.7uF; Capacitor Type: FILM; Tolerance  (fill in as +-): 10%; Package Style: SMTMeter; Packaging: Bulk; Tolerance (fill in as +-): 10%; Rated DC Voltage (URdc): 100V; Length: 15.3mm; Width: 13.7mm; Height: 7mm; Reach SVHC Compliant: Yes; RoHS Compliant: Yes; ComponentLink1URL: https://datasheet.ciiva.com:443/pdfs/VipMasterIC/IC/WIMA/WIMA-S-A0007419195/WIMA-S-A0007419195-1.pdf?src-supplier=IHS+Markit; ComponentLink1Description: https://datasheet.ciiva.com:443/pdfs/VipMasterIC/IC/WIMA/WIMA-S-A0007419195/WIMA-S-A0007419195-1.pdf?src-supplier=IHS+Markit; ComponentLink2URL: https://datasheet.ciiva.com/8034/1674204-8034651.pdf?src-supplier=Element14; ComponentLink2Description: https://datasheet.ciiva.com/8034/1674204-8034651.pdf?src-supplier=Element14
footprint 6054 WIMA
pins: 1, 2

## SolderBridge
designator JP?, comment Normally open  (value not drawn)
footprint SB 1.0x1.5mm
pins: 1, 2

## TestPoint
designator TP?, comment PTH 0.75mm  (value not drawn)
footprint PTH 0.7MM
pins: 1

## TS53YL102MR10
designator VR?, comment 1k
Trimmer, Cermet, 0.25W, 1000ohm, 15.8V, 20% +/-Tol, 100ppm/Cel, 1 Turn(s); Manufacturer: Vishay; Manufacturer Part Number: TS53YL102MR10; Actuator Orientation: Vertical; Actuator Type: SCREW; Number of Turns: 1; Power: 250mW; Rated Temperature: 70°C; Value: 1kR; Resistance Law: Linear; Rotational Angle: 220°; Temperature Coefficient (ppm/Cel): -100,100; Package Height: 2.7mm; Package Length: 5mm; Supplier: Mouser; Supplier Part Number: 72-TS53YL-1K; RoHS: Yes; Category: Variable Resistors and Potentiometers; Stock: 1337; Pricing: 1=2.72, 10=2.29, 50=2.29, 100=1.93, 1000=1.56, 10000=1.42 (USD); Mounting Technology: Surface Mount; Pins: 3; Package Shape: Rectangular; Case/Package: 2020; Terminal Finish: Tin; Min Operating Temperature: -55°C; Max Operating Temperature: 125°C; Tolerance: 20%; JESD-609 Code: e3; Resistor Type: TRIMMER; Construction: Trimmer; Packaging: Tape and Reel; Technology: CERMET; Termination: Gull Wing; Working Voltage: 15.8V; Package Width: 5mm; Reach SVHC Compliant: Yes; RoHS Compliant: Yes; ComponentLink1URL: https://datasheet.ciiva.com:443/pdfs/VipMasterIC/IC/VISH/VISH-S-A0007084328/VISH-S-A0007084328-1.pdf?src-supplier=IHS+Markit; ComponentLink1Description: https://datasheet.ciiva.com:443/pdfs/VipMasterIC/IC/VISH/VISH-S-A0007084328/VISH-S-A0007084328-1.pdf?src-supplier=IHS+Markit; ComponentLink2URL: https://datasheet.ciiva.com/11831/0900766b80442f56-11831972.pdf?src-supplier=Rs; ComponentLink2Description: https://datasheet.ciiva.com/11831/0900766b80442f56-11831972.pdf?src-supplier=Rs; ComponentLink3URL: https://datasheet.ciiva.com/2158/ts53y-2158713.pdf?src-supplier=Digikey; ComponentLink3Description: https://datasheet.ciiva.com/2158/ts53y-2158713.pdf?src-supplier=Digikey; ComponentLink4URL: https://datasheet.ciiva.com/2158/ts53y-2158714.pdf?src-supplier=Digikey; ComponentLink4Description: https://datasheet.ciiva.com/2158/ts53y-2158714.pdf?src-supplier=Digikey; ComponentLink5URL: https://datasheet.ciiva.com/2158/ts53y-2158715.pdf?src-supplier=Digikey; ComponentLink5Description: https://datasheet.ciiva.com/2158/ts53y-2158715.pdf?src-supplier=Digikey; ComponentLink6URL: https://datasheet.ciiva.com/16335/ts53y-16335610.pdf?src-supplier=Future+Electronics; ComponentLink6Description: https://datasheet.ciiva.com/16335/ts53y-16335610.pdf?src-supplier=Future+Electronics; ComponentLink7URL: https://datasheet.ciiva.com/16716/70218802-16716971.pdf?src-supplier=Allied+Electronics; ComponentLink7Description: https://datasheet.ciiva.com/16716/70218802-16716971.pdf?src-supplier=Allied+Electronics; ComponentLink8URL: https://datasheet.ciiva.com/22715/1696501-22715039.pdf?src-supplier=Element14; ComponentLink8Description: https://datasheet.ciiva.com/22715/1696501-22715039.pdf?src-supplier=Element14
footprint TS53YL (step model is screwed)
pins: 1, 2, 3

## TS53YL105MR10
designator VR?, comment 1M
Trimmer, Cermet, 0.04W, 1000000ohm, 200V, 20% +/-Tol, 100ppm/Cel, 1 Turn(s); Manufacturer: Vishay Sfernice; Manufacturer Part Number: TS53YL105MR10; Actuator Orientation: Vertical; Actuator Type: SCREW; Number of Turns: 1; Power: 250mW; Rated Temperature: 70°C; Value: 1MR; Resistance Law: Linear; Rotational Angle: 220°; Temperature Coefficient (ppm/Cel): -100,100; Package Height: 2.7mm; Package Length: 5mm; Supplier: Mouser; Supplier Part Number: 72-TS53YL-1M; RoHS: Yes; Category: Variable Resistors and Potentiometers; Stock: 577; Pricing: 1=2.72, 10=2.03, 50=2.03, 100=1.8, 1000=1.33, 10000=1.32 (USD); Mounting Technology: Surface Mount; Pins: 3; Package Shape: Rectangular; Case/Package: 2020; Terminal Finish: Tin; Min Operating Temperature: -55°C; Max Operating Temperature: 125°C; Tolerance: 20%; JESD-609 Code: e3; Resistor Type: TRIMMER; Construction: Trimmer; Packaging: Tape and Reel; Technology: CERMET; Termination: Gull Wing; Working Voltage: 200V; Package Width: 5mm; Reach SVHC Compliant: Yes; RoHS Compliant: Yes; ComponentLink1URL: https://datasheet.ciiva.com:443/pdfs/VipMasterIC/IC/VISH/VISH-S-A0007084328/VISH-S-A0007084328-1.pdf?src-supplier=IHS+Markit; ComponentLink1Description: https://datasheet.ciiva.com:443/pdfs/VipMasterIC/IC/VISH/VISH-S-A0007084328/VISH-S-A0007084328-1.pdf?src-supplier=IHS+Markit; ComponentLink2URL: https://datasheet.ciiva.com/8699/ts53y-8699175.pdf?src-supplier=Avnet; ComponentLink2Description: https://datasheet.ciiva.com/8699/ts53y-8699175.pdf?src-supplier=Avnet
footprint TS53YL (step model is screwed)
pins: 1, 2, 3

## TS53YL204MR10
designator VR?, comment 200k
Trimmer, Cermet, 0.2W, 200000ohm, 200V, 20% +/-Tol, 100ppm/Cel, 1 Turn(s); Manufacturer: Vishay Sfernice; Manufacturer Part Number: TS53YL204MR10; Actuator Orientation: Vertical; Actuator Type: SCREW; Number of Turns: 1; Power: 250mW; Rated Temperature: 70°C; Value: 200kR; Resistance Law: Linear; Rotational Angle: 220°; Temperature Coefficient (ppm/Cel): -100,100; Package Height: 2.7mm; Package Length: 5mm; Supplier: Mouser; Supplier Part Number: 72-TS53YL-200K; RoHS: Yes; Category: Variable Resistors and Potentiometers; Stock: 1294; Pricing: 1=2.72, 10=2.29, 50=2.19, 100=1.9, 1000=1.56, 10000=1.34 (USD); Mounting Technology: Surface Mount; Pins: 3; Package Shape: Rectangular; Case/Package: 2020; Terminal Finish: Tin; Min Operating Temperature: -55°C; Max Operating Temperature: 125°C; Tolerance: 20%; JESD-609 Code: e3; Resistor Type: TRIMMER; Construction: Trimmer; Packaging: Tape and Reel; Technology: CERMET; Termination: Gull Wing; Working Voltage: 200V; Package Width: 5mm; RoHS Compliant: Yes; ComponentLink1URL: https://datasheet.ciiva.com:443/pdfs/VipMasterIC/IC/VISH/VISH-S-A0007084328/VISH-S-A0007084328-1.pdf?src-supplier=IHS+Markit; ComponentLink1Description: https://datasheet.ciiva.com:443/pdfs/VipMasterIC/IC/VISH/VISH-S-A0007084328/VISH-S-A0007084328-1.pdf?src-supplier=IHS+Markit; ComponentLink2URL: https://datasheet.ciiva.com/11831/0900766b80442f56-11831524.pdf?src-supplier=Rs; ComponentLink2Description: https://datasheet.ciiva.com/11831/0900766b80442f56-11831524.pdf?src-supplier=Rs; ComponentLink3URL: https://datasheet.ciiva.com/2157/ts53y-2157357.pdf?src-supplier=Digikey; ComponentLink3Description: https://datasheet.ciiva.com/2157/ts53y-2157357.pdf?src-supplier=Digikey; ComponentLink4URL: https://datasheet.ciiva.com/2157/ts53y-2157358.pdf?src-supplier=Digikey; ComponentLink4Description: https://datasheet.ciiva.com/2157/ts53y-2157358.pdf?src-supplier=Digikey; ComponentLink5URL: https://datasheet.ciiva.com/2157/ts53y-2157359.pdf?src-supplier=Digikey; ComponentLink5Description: https://datasheet.ciiva.com/2157/ts53y-2157359.pdf?src-supplier=Digikey; ComponentLink6URL: https://datasheet.ciiva.com/8697/ts53y-8697353.pdf?src-supplier=Avnet; ComponentLink6Description: https://datasheet.ciiva.com/8697/ts53y-8697353.pdf?src-supplier=Avnet; ComponentLink7URL: https://datasheet.ciiva.com/8021/1696501-8021149.pdf?src-supplier=Element14; ComponentLink7Description: https://datasheet.ciiva.com/8021/1696501-8021149.pdf?src-supplier=Element14; ComponentLink8URL: https://datasheet.ciiva.com/16354/ts53y-16354136.pdf?src-supplier=Future+Electronics; ComponentLink8Description: https://datasheet.ciiva.com/16354/ts53y-16354136.pdf?src-supplier=Future+Electronics; ComponentLink9URL: https://datasheet.ciiva.com/16717/70218802-16717320.pdf?src-supplier=Allied+Electronics; ComponentLink9Description: https://datasheet.ciiva.com/16717/70218802-16717320.pdf?src-supplier=Allied+Electronics
footprint TS53YL (step model is screwed)
pins: 1, 2, 3